# Altium schematic symbol library SnapEDAsch.SchLib: 1 symbol
Pins are listed as number, name and electrical type; pins without a type are passive.

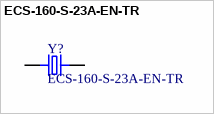
[diagram p0: symbol ECS-160-S-23A-EN-TR]

## ECS-160-S-23A-EN-TR
designator Y?
16MHz Â±30ppm Crystal Series 60 Ohms 2-SMD, No Lead; MF: ECS Inc.; Package: SMD-2 ECS International; Price: None; MP: ECS-160-S-23A-EN-TR; Availability: Unavailable; SnapEDA_Link: https://www.snapeda.com/parts/ECS-160-S-23A-EN-TR/ECS%20Inc./view-part/2122006/?ref=snap; Value: *; Supplier 1: Digi-Key; Supplier Part Number 1: XC983CT-ND
footprint XTAL_ECS-160-S-23A-EN-TR
pins: 1 IN/OUT, 2 OUT/IN